# Altium schematic symbol library AD9834.Schlib: 1 symbol
Pins are listed as number, name and electrical type; pins without a type are passive.

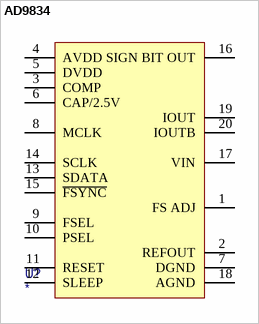
[diagram p0: symbol AD9834]

## AD9834
designator U?
pins: 1 FS ADJ, 2 REFOUT, 3 COMP, 4 AVDD, 5 DVDD, 6 CAP/2.5V, 7 DGND, 8 MCLK, 9 FSEL, 10 PSEL, 11 RESET, 12 SLEEP, 13 SDATA, 14 SCLK, 15 ~{FSYNC}, 16 SIGN BIT OUT, 17 VIN, 18 AGND, 19 IOUT, 20 IOUTB